# EAGLE library part COLIBRI (library balto)
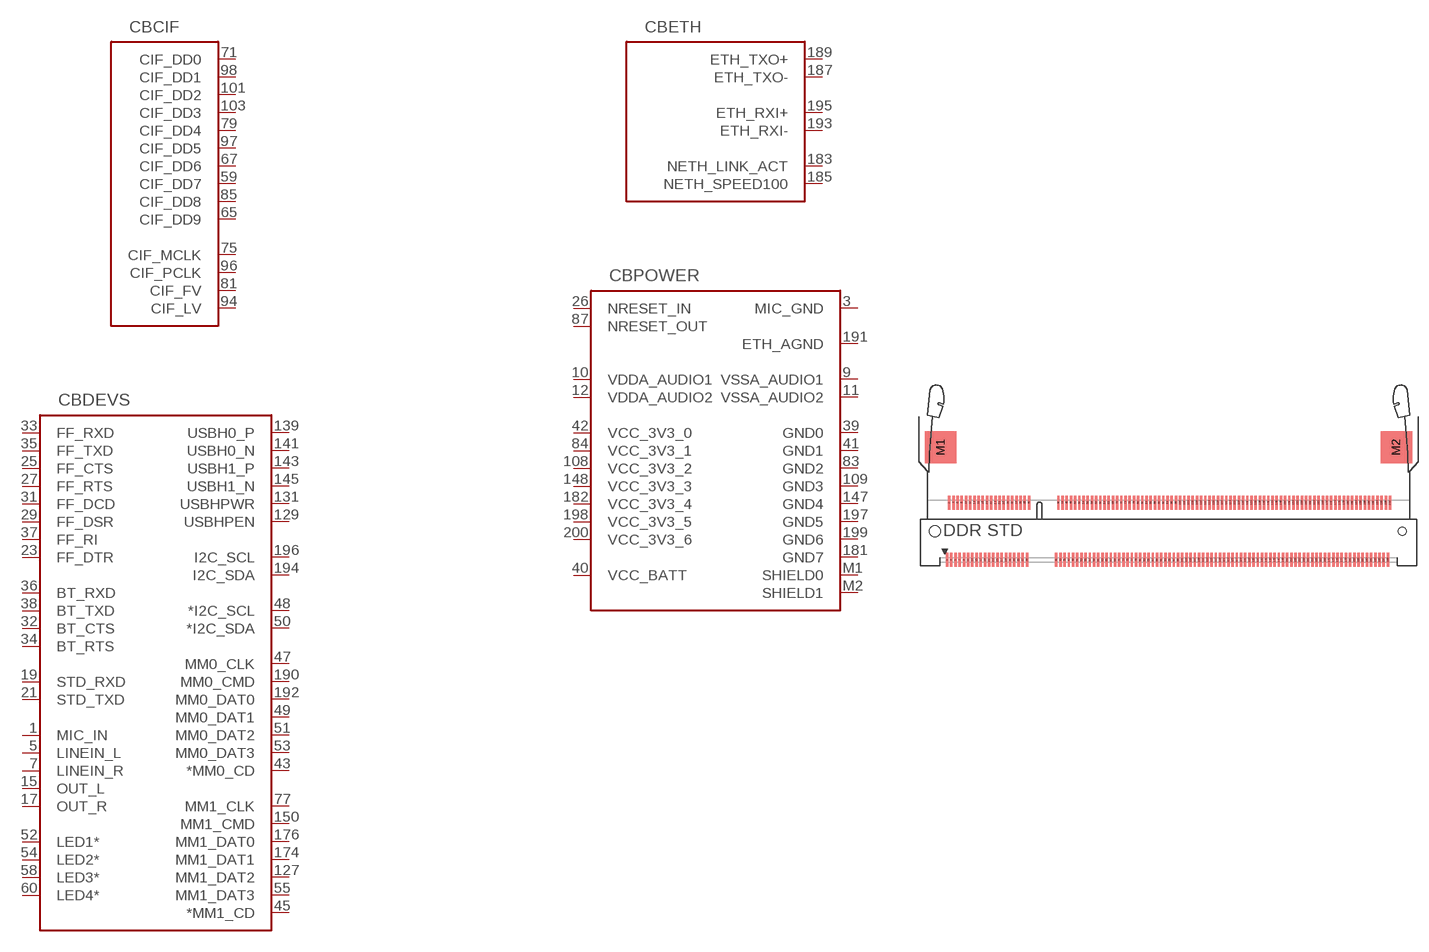
[diagram p6: symbol with the pads of AMP-SODIMM200; footprint AMP-SODIMM200]

Designator prefix CB; gates DEVS=COLIBRI-DEVS ETH=COLIBRI-ETH POWER=COLIBRI-PWR CIF=COLIBRI-OV

## COLIBRI  [AMP-SODIMM200]
1  DEVS:MIC_IN  pas
3  POWER:MIC_GND  pas
5  DEVS:LINEIN_L  pas
7  DEVS:LINEIN_R  pas
9  POWER:VSSA_AUDIO1  pas
10  POWER:VDDA_AUDIO1  pas
11  POWER:VSSA_AUDIO2  pas
12  POWER:VDDA_AUDIO2  pas
15  DEVS:OUT_L  pas
17  DEVS:OUT_R  pas
19  DEVS:STD_RXD  pas
21  DEVS:STD_TXD  pas
23  DEVS:FF_DTR  pas
25  DEVS:FF_CTS  pas
26  POWER:NRESET_IN  pas
27  DEVS:FF_RTS  pas
29  DEVS:FF_DSR  pas
31  DEVS:FF_DCD  pas
32  DEVS:BT_CTS  pas
33  DEVS:FF_RXD  pas
34  DEVS:BT_RTS  pas
35  DEVS:FF_TXD  pas
36  DEVS:BT_RXD  pas
37  DEVS:FF_RI  pas
38  DEVS:BT_TXD  pas
39  POWER:GND0  pas
40  POWER:VCC_BATT  pas
41  POWER:GND1  pas
42  POWER:VCC_3V3_0  pas
43  DEVS:*MM0_CD  pas
45  DEVS:*MM1_CD  pas
47  DEVS:MM0_CLK  pas
48  DEVS:*I2C_SCL  pas
49  DEVS:MM0_DAT1  pas
50  DEVS:*I2C_SDA  pas
51  DEVS:MM0_DAT2  pas
52  DEVS:LED1*  pas
53  DEVS:MM0_DAT3  pas
54  DEVS:LED2*  pas
55  DEVS:MM1_DAT3  pas
58  DEVS:LED3*  pas
59  CIF:CIF_DD7  pas
60  DEVS:LED4*  pas
65  CIF:CIF_DD9  pas
67  CIF:CIF_DD6  pas
71  CIF:CIF_DD0  pas
75  CIF:CIF_MCLK  pas
77  DEVS:MM1_CLK  pas
79  CIF:CIF_DD4  pas
81  CIF:CIF_FV  pas
83  POWER:GND2  pas
84  POWER:VCC_3V3_1  pas
85  CIF:CIF_DD8  pas
87  POWER:NRESET_OUT  pas
94  CIF:CIF_LV  pas
96  CIF:CIF_PCLK  pas
97  CIF:CIF_DD5  pas
98  CIF:CIF_DD1  pas
101  CIF:CIF_DD2  pas
103  CIF:CIF_DD3  pas
108  POWER:VCC_3V3_2  pas
109  POWER:GND3  pas
127  DEVS:MM1_DAT2  pas
129  DEVS:USBHPEN  pas
131  DEVS:USBHPWR  pas
139  DEVS:USBH0_P  pas
141  DEVS:USBH0_N  pas
143  DEVS:USBH1_P  pas
145  DEVS:USBH1_N  pas
147  POWER:GND4  pas
148  POWER:VCC_3V3_3  pas
150  DEVS:MM1_CMD  pas
174  DEVS:MM1_DAT1  pas
176  DEVS:MM1_DAT0  pas
181  POWER:GND7  pas
182  POWER:VCC_3V3_4  pas
183  ETH:NETH_LINK_ACT  pas
185  ETH:NETH_SPEED100  pas
187  ETH:ETH_TXO-  pas
189  ETH:ETH_TXO+  pas
190  DEVS:MM0_CMD  pas
191  POWER:ETH_AGND  pas
192  DEVS:MM0_DAT0  pas
193  ETH:ETH_RXI-  pas
194  DEVS:I2C_SDA  pas
195  ETH:ETH_RXI+  pas
196  DEVS:I2C_SCL  pas
197  POWER:GND5  pas
198  POWER:VCC_3V3_5  pas
199  POWER:GND6  pas
200  POWER:VCC_3V3_6  pas
M1  POWER:SHIELD0  pas
M2  POWER:SHIELD1  pas

## Footprint AMP-SODIMM200 (pad centres in mm)
DDR2 SODIMM SOCKET 0.6mm Pitch 200 Pos. Connector for Kontron X-Board 2.5V Source: http://catalog.tycoelectronics.com ... JPN_CD_1376408_S.pdf
smd 0.35 x 2: 1 -32.65,-4.1; 2 -32.35,4.1; 3 -32.05,-4.1; 4 -31.75,4.1; 5 -31.45,-4.1; 6 -31.15,4.1; 7 -30.85,-4.1; 8 -30.55,4.1; 9 -30.25,-4.1; 10 -29.95,4.1; 11 -29.65,-4.1; 12 -29.35,4.1; 13 -29.05,-4.1; 14 -28.75,4.1; 15 -28.45,-4.1; 16 -28.15,4.1; 17 -27.85,-4.1; 18 -27.55,4.1; 19 -27.25,-4.1; 20 -26.95,4.1; 21 -26.65,-4.1; 22 -26.35,4.1; 23 -26.05,-4.1; 24 -25.75,4.1; 25 -25.45,-4.1; 26 -25.15,4.1; 27 -24.85,-4.1; 28 -24.55,4.1; 29 -24.25,-4.1; 30 -23.95,4.1; 31 -23.65,-4.1; 32 -23.35,4.1; 33 -23.05,-4.1; 34 -22.75,4.1; 35 -22.45,-4.1; 36 -22.15,4.1; 37 -21.85,-4.1; 38 -21.55,4.1; 39 -21.25,-4.1; 40 -20.95,4.1; 41 -17.05,-4.1; 42 -16.75,4.1; 43 -16.45,-4.1; 44 -16.15,4.1; 45 -15.85,-4.1; 46 -15.55,4.1; 47 -15.25,-4.1; 48 -14.95,4.1; 49 -14.65,-4.1; 50 -14.35,4.1; 51 -14.05,-4.1; 52 -13.75,4.1; 53 -13.45,-4.1; 54 -13.15,4.1; 55 -12.85,-4.1; 56 -12.55,4.1; 57 -12.25,-4.1; 58 -11.95,4.1; 59 -11.65,-4.1; 60 -11.35,4.1; 61 -11.05,-4.1; 62 -10.75,4.1; 63 -10.45,-4.1; 64 -10.15,4.1; 65 -9.85,-4.1; 66 -9.55,4.1; 67 -9.25,-4.1; 68 -8.95,4.1; 69 -8.65,-4.1; 70 -8.35,4.1; 71 -8.05,-4.1; 72 -7.75,4.1; 73 -7.45,-4.1; 74 -7.15,4.1; 75 -6.85,-4.1; 76 -6.55,4.1; 77 -6.25,-4.1; 78 -5.95,4.1; 79 -5.65,-4.1; 80 -5.35,4.1; 81 -5.05,-4.1; 82 -4.75,4.1; 83 -4.45,-4.1; 84 -4.15,4.1; 85 -3.85,-4.1; 86 -3.55,4.1; 87 -3.25,-4.1; 88 -2.95,4.1; 89 -2.65,-4.1; 90 -2.35,4.1; 91 -2.05,-4.1; 92 -1.75,4.1; 93 -1.45,-4.1; 94 -1.15,4.1; 95 -0.85,-4.1; 96 -0.55,4.1; 97 -0.25,-4.1; 98 0.05,4.1; 99 0.35,-4.1; 100 0.65,4.1; 101 0.95,-4.1; 102 1.25,4.1; 103 1.55,-4.1; 104 1.85,4.1; 105 2.15,-4.1; 106 2.45,4.1; 107 2.75,-4.1; 108 3.05,4.1; 109 3.35,-4.1; 110 3.65,4.1; 111 3.95,-4.1; 112 4.25,4.1; 113 4.55,-4.1; 114 4.85,4.1; 115 5.15,-4.1; 116 5.45,4.1; 117 5.75,-4.1; 118 6.05,4.1; 119 6.35,-4.1; 120 6.65,4.1; 121 6.95,-4.1; 122 7.25,4.1; 123 7.55,-4.1; 124 7.85,4.1; 125 8.15,-4.1; 126 8.45,4.1; 127 8.75,-4.1; 128 9.05,4.1; 129 9.35,-4.1; 130 9.65,4.1; 131 9.95,-4.1; 132 10.25,4.1; 133 10.55,-4.1; 134 10.85,4.1; 135 11.15,-4.1; 136 11.45,4.1; 137 11.75,-4.1; 138 12.05,4.1; 139 12.35,-4.1; 140 12.65,4.1; 141 12.95,-4.1; 142 13.25,4.1; 143 13.55,-4.1; 144 13.85,4.1; 145 14.15,-4.1; 146 14.45,4.1; 147 14.75,-4.1; 148 15.05,4.1; 149 15.35,-4.1; 150 15.65,4.1; 151 15.95,-4.1; 152 16.25,4.1; 153 16.55,-4.1; 154 16.85,4.1; 155 17.15,-4.1; 156 17.45,4.1; 157 17.75,-4.1; 158 18.05,4.1; 159 18.35,-4.1; 160 18.65,4.1; 161 18.95,-4.1; 162 19.25,4.1; 163 19.55,-4.1; 164 19.85,4.1; 165 20.15,-4.1; 166 20.45,4.1; 167 20.75,-4.1; 168 21.05,4.1; 169 21.35,-4.1; 170 21.65,4.1; 171 21.95,-4.1; 172 22.25,4.1; 173 22.55,-4.1; 174 22.85,4.1; 175 23.15,-4.1; 176 23.45,4.1; 177 23.75,-4.1; 178 24.05,4.1; 179 24.35,-4.1; 180 24.65,4.1; 181 24.95,-4.1; 182 25.25,4.1; 183 25.55,-4.1; 184 25.85,4.1; 185 26.15,-4.1; 186 26.45,4.1; 187 26.75,-4.1; 188 27.05,4.1; 189 27.35,-4.1; 190 27.65,4.1; 191 27.95,-4.1; 192 28.25,4.1; 193 28.55,-4.1; 194 28.85,4.1; 195 29.15,-4.1; 196 29.45,4.1; 197 29.75,-4.1; 198 30.05,4.1; 199 30.35,-4.1; 200 30.65,4.1
smd 4.5 x 4.6: M1 -33.55,12; M2 31.55,12
hole 1.1 at 32.4,0
hole 1.6 at -34.4,0